# EAGLE library part MOSFET-P-DUAL (library pimoroni-ics)
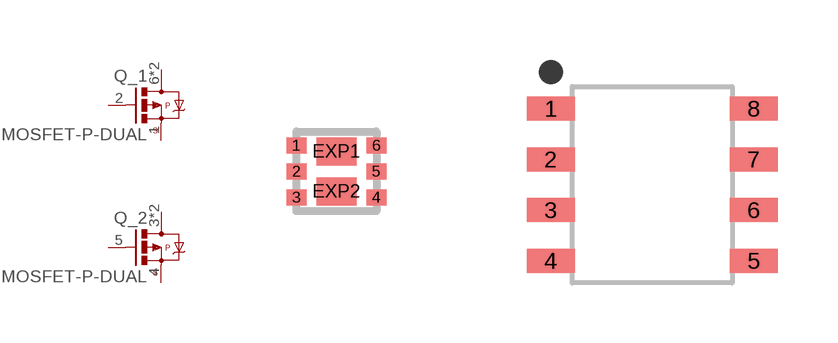
[diagram p144: symbol with the pads of DFN2020-6L; footprints DFN2020-6L, SOIC8-150MIL]

Designator prefix Q; gates _1=MOSFET-PCHANNEL _2=MOSFET-PCHANNEL

## MOSFET-P-DUAL_DMP2075UFDB  [DFN2020-6L]
1  _1:S  pas
2  _1:G  pas
3  _2:D  pas
4  _2:S  pas
5  _2:G  pas
6  _1:D  pas
EXP1  _1:D  pas
EXP2  _2:D  pas

## MOSFET-P-DUAL_DMP3085LSD  [SOIC8-150MIL]
1  _1:S  pas
2  _1:G  pas
3  _2:S  pas
4  _2:G  pas
5  _2:D  pas
6  _2:D  pas
7  _1:D  pas
8  _1:D  pas

## Footprint DFN2020-6L (pad centres in mm)
smd 0.5 x 0.4: 1 -1,0.65; 2 -1,0; 3 -1,-0.65; 4 1,-0.65; 5 1,0; 6 1,0.65
smd 1 x 0.7: EXP1 0,0.5; EXP2 0,-0.5

## Footprint SOIC8-150MIL (pad centres in mm)
smd 1.2 x 0.6: 1 -2.54,1.905; 2 -2.54,0.635; 3 -2.54,-0.635; 4 -2.54,-1.905; 5 2.54,-1.905; 6 2.54,-0.635; 7 2.54,0.635; 8 2.54,1.905